# EAGLE library part TEXAS_INSTRUMENTS-BUCK_CONTROLLER-LM5140QRWGRQ1 (library Module_Regulators)
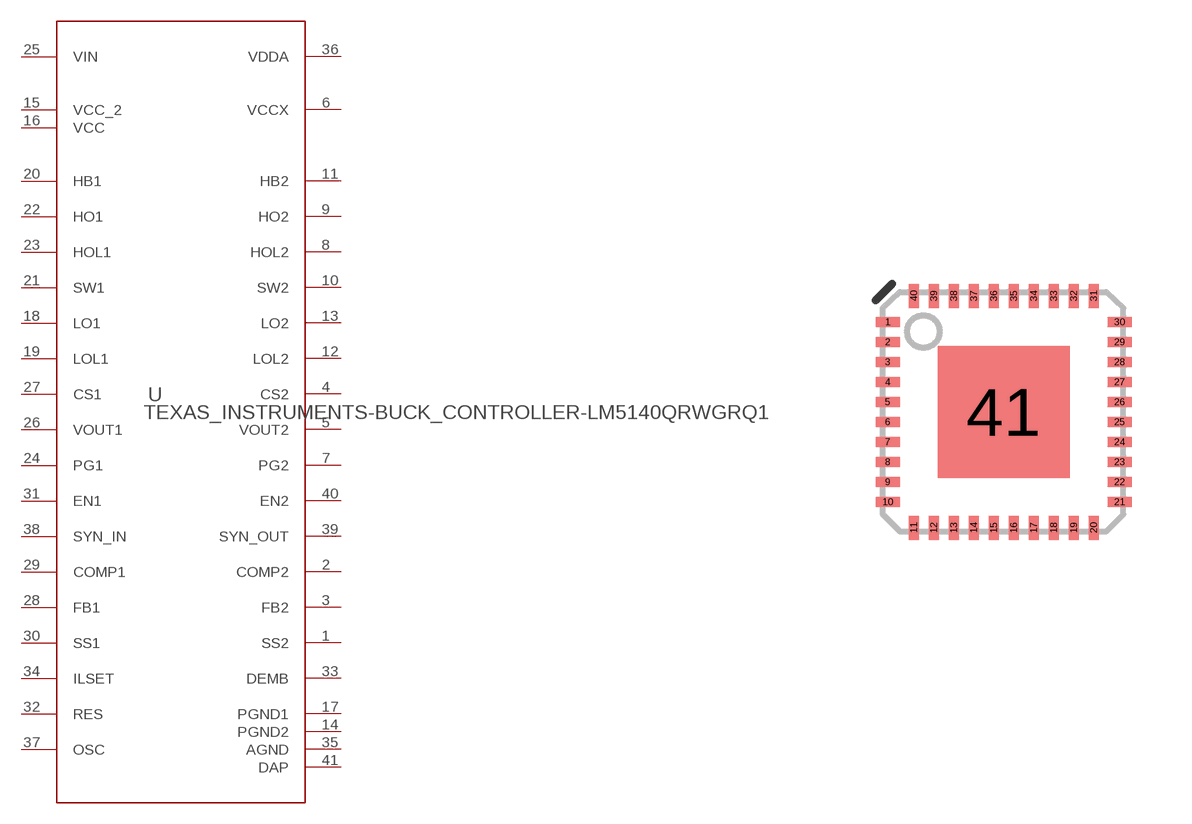
[diagram p0: symbol with the pads of TEXAS_INSTRUMENTS-BUCK_CONTROLLER-LM5140QRWGRQ1; footprint TEXAS_INSTRUMENTS-BUCK_CONTROLLER-LM5140QRWGRQ1]

Designator prefix U

## TEXAS_INSTRUMENTS-BUCK_CONTROLLER-LM5140QRWGRQ1 (MANUFACTURER: Texas Instruments; PARTNUMBER: LM5140QRWGRQ1; REFDES: RefDes; TYPE: TYPE; VALUE: Value)  [TEXAS_INSTRUMENTS-BUCK_CONTROLLER-LM5140QRWGRQ1]
1  SS2  in
2  COMP2  out
3  FB2  in
4  CS2  in
5  VOUT2  in
6  VCCX  pwr
7  PG2  oc
8  HOL2  out
9  HO2  out
10  SW2  pwr
11  HB2  out
12  LOL2  out
13  LO2  out
14  PGND2  pwr
15  VCC_2  pwr
16  VCC  pwr
17  PGND1  pwr
18  LO1  out
19  LOL1  out
20  HB1  out
21  SW1  pwr
22  HO1  out
23  HOL1  out
24  PG1  oc
25  VIN  pwr
26  VOUT1  in
27  CS1  in
28  FB1  in
29  COMP1  out
30  SS1  in
31  EN1  in
32  RES  out
33  DEMB  in
34  ILSET  in
35  AGND  pwr
36  VDDA  pwr
37  OSC  in
38  SYN_IN  pas
39  SYN_OUT  out
40  EN2  in
41  DAP  pwr

## Footprint TEXAS_INSTRUMENTS-BUCK_CONTROLLER-LM5140QRWGRQ1 (pad centres in mm)
smd 0.6 x 0.25: 1 -2.9,2.25; 2 -2.9,1.75; 3 -2.9,1.25; 4 -2.9,0.75; 5 -2.9,0.25; 6 -2.9,-0.25; 7 -2.9,-0.75; 8 -2.9,-1.25; 9 -2.9,-1.75; 10 -2.9,-2.25; 21 2.9,-2.25; 22 2.9,-1.75; 23 2.9,-1.25; 24 2.9,-0.75; 25 2.9,-0.25; 26 2.9,0.25; 27 2.9,0.75; 28 2.9,1.25; 29 2.9,1.75; 30 2.9,2.25
smd 0.25 x 0.6: 11 -2.25,-2.9; 12 -1.75,-2.9; 13 -1.25,-2.9; 14 -0.75,-2.9; 15 -0.25,-2.9; 16 0.25,-2.9; 17 0.75,-2.9; 18 1.25,-2.9; 19 1.75,-2.9; 20 2.25,-2.9; 31 2.25,2.9; 32 1.75,2.9; 33 1.25,2.9; 34 0.75,2.9; 35 0.25,2.9; 36 -0.25,2.9; 37 -0.75,2.9; 38 -1.25,2.9; 39 -1.75,2.9; 40 -2.25,2.9
smd 3.3 x 3.3: 41 0,0